# EAGLE library part DF12D-3.0-60 (library gumsense)
60 pin connector PN: DF12D(3.0)-60DP-0.5V Source: con-hirose-df12d(3.0)60dp0.5v80.lbr from Bob Starr <rtzaudio@mindspring.com>
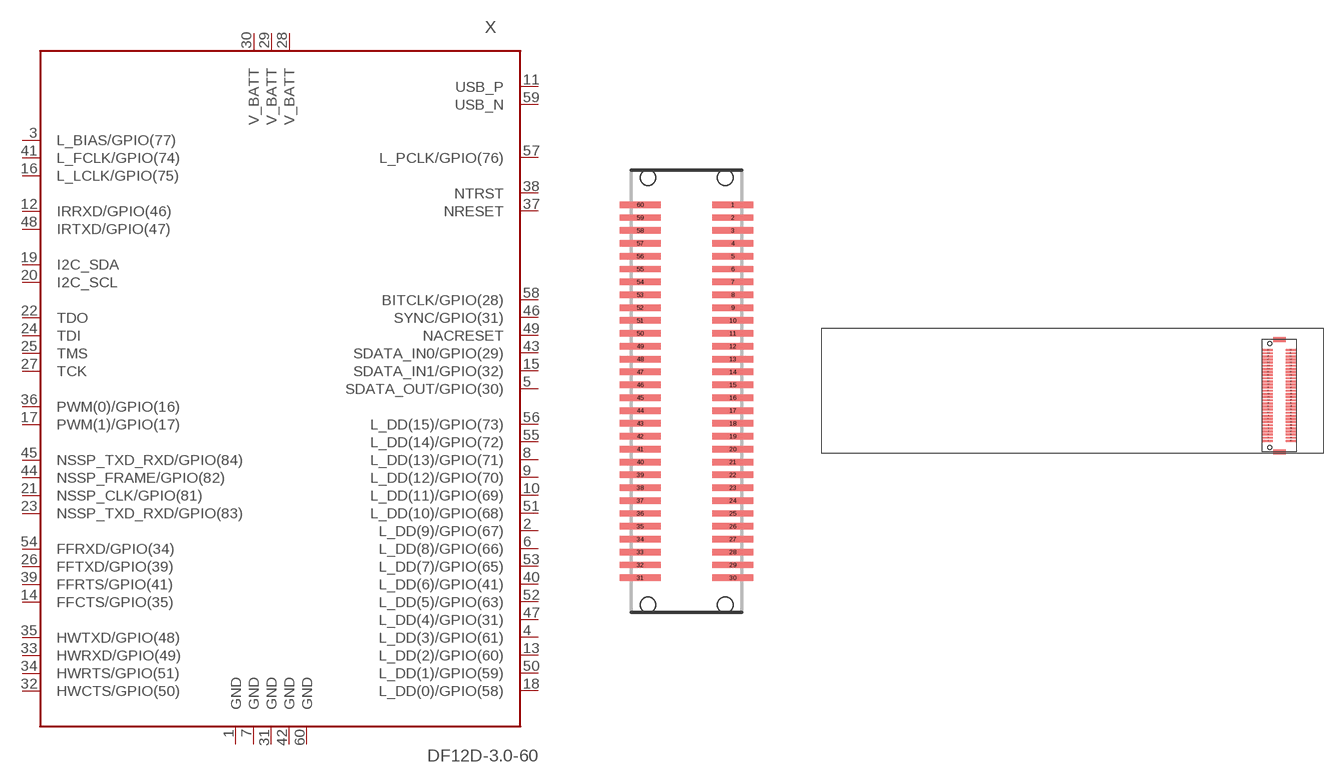
[diagram p1: symbol with the pads of DF12-3.0-60; footprints DF12-3.0-60, GUMDF12]

Designator prefix X

## DF12D-3.0-60  [DF12-3.0-60]
1  GND
2  L_DD(9)/GPIO(67)
3  L_BIAS/GPIO(77)
4  L_DD(3)/GPIO(61)
5  SDATA_OUT/GPIO(30)
6  L_DD(8)/GPIO(66)
7  GND
8  L_DD(13)/GPIO(71)
9  L_DD(12)/GPIO(70)
10  L_DD(11)/GPIO(69)
11  USB_P
12  IRRXD/GPIO(46)
13  L_DD(2)/GPIO(60)
14  FFCTS/GPIO(35)
15  SDATA_IN1/GPIO(32)
16  L_LCLK/GPIO(75)
17  PWM(1)/GPIO(17)
18  L_DD(0)/GPIO(58)
19  I2C_SDA
20  I2C_SCL
21  NSSP_CLK/GPIO(81)
22  TDO
23  NSSP_TXD_RXD/GPIO(83)
24  TDI
25  TMS
26  FFTXD/GPIO(39)
27  TCK
28  V_BATT
29  V_BATT
30  V_BATT
31  GND
32  HWCTS/GPIO(50)
33  HWRXD/GPIO(49)
34  HWRTS/GPIO(51)
35  HWTXD/GPIO(48)
36  PWM(0)/GPIO(16)
37  NRESET
38  NTRST
39  FFRTS/GPIO(41)
40  L_DD(6)/GPIO(41)
41  L_FCLK/GPIO(74)
42  GND
43  SDATA_IN0/GPIO(29)
44  NSSP_FRAME/GPIO(82)
45  NSSP_TXD_RXD/GPIO(84)
46  SYNC/GPIO(31)
47  L_DD(4)/GPIO(31)
48  IRTXD/GPIO(47)
49  NACRESET
50  L_DD(1)/GPIO(59)
51  L_DD(10)/GPIO(68)
52  L_DD(5)/GPIO(63)
53  L_DD(7)/GPIO(65)
54  FFRXD/GPIO(34)
55  L_DD(14)/GPIO(72)
56  L_DD(15)/GPIO(73)
57  L_PCLK/GPIO(76)
58  BITCLK/GPIO(28)
59  USB_N
60  GND

## DF12D-3.0-60GUM  [GUMDF12]
Pads as for DF12-3.0-60

## Footprint DF12-3.0-60 (pad centres in mm)
60 pin connector PN: DF12D(3.0)-60DP-0.5V Hirose Electric Co.
smd 1.6 x 0.25: 1 1.8,7.25; 2 1.8,6.75; 3 1.8,6.25; 4 1.8,5.75; 5 1.8,5.25; 6 1.8,4.75; 7 1.8,4.25; 8 1.8,3.75; 9 1.8,3.25; 10 1.8,2.75; 11 1.8,2.25; 12 1.8,1.75; 13 1.8,1.25; 14 1.8,0.75; 15 1.8,0.25; 16 1.8,-0.25; 17 1.8,-0.75; 18 1.8,-1.25; 19 1.8,-1.75; 20 1.8,-2.25; 21 1.8,-2.75; 22 1.8,-3.25; 23 1.8,-3.75; 24 1.8,-4.25; 25 1.8,-4.75; 26 1.8,-5.25; 27 1.8,-5.75; 28 1.8,-6.25; 29 1.8,-6.75; 30 1.8,-7.25; 31 -1.8,-7.25; 32 -1.8,-6.75; 33 -1.8,-6.25; 34 -1.8,-5.75; 35 -1.8,-5.25; 36 -1.8,-4.75; 37 -1.8,-4.25; 38 -1.8,-3.75; 39 -1.8,-3.25; 40 -1.8,-2.75; 41 -1.8,-2.25; 42 -1.8,-1.75; 43 -1.8,-1.25; 44 -1.8,-0.75; 45 -1.8,-0.25; 46 -1.8,0.25; 47 -1.8,0.75; 48 -1.8,1.25; 49 -1.8,1.75; 50 -1.8,2.25; 51 -1.8,2.75; 52 -1.8,3.25; 53 -1.8,3.75; 54 -1.8,4.25; 55 -1.8,4.75; 56 -1.8,5.25; 57 -1.8,5.75; 58 -1.8,6.25; 59 -1.8,6.75; 60 -1.8,7.25
hole 0.6 at -1.5,8.3
hole 0.6 at 1.5,8.3
hole 0.6 at 1.5,-8.3
hole 0.6 at -1.5,-8.3

## Footprint GUMDF12 (pad centres in mm)
Hirose DF12 60 pin connector plus gumstix board outline and mounting holes The header connector and an outline of the overlying gumstix including the 3 drillholes. Created by gordon@gumstix.com One significant reference used in creating this was the "DF12 Series.pdf" reference material from Hirose, Inc. This material is being made available according to the Creative Commons Attribution-ShareAlike license. THIS INFORMATION IS PROVIDED AS IS AND WITHOUT WARRANTY OF ANY KIND, EXPRESSED OR IMPLIED
smd 1.6 x 0.3: 1 -1.8,-7.25; 2 -1.8,-6.75; 3 -1.8,-6.25; 4 -1.8,-5.75; 5 -1.8,-5.25; 6 -1.8,-4.75; 7 -1.8,-4.25; 8 -1.8,-3.75; 9 -1.8,-3.25; 10 -1.8,-2.75; 11 -1.8,-2.25; 12 -1.8,-1.75; 13 -1.8,-1.25; 14 -1.8,-0.75; 15 -1.8,-0.25; 16 -1.8,0.25; 17 -1.8,0.75; 18 -1.8,1.25; 19 -1.8,1.75; 20 -1.8,2.25; 21 -1.8,2.75; 22 -1.8,3.25; 23 -1.8,3.75; 24 -1.8,4.25; 25 -1.8,4.75; 26 -1.8,5.25; 27 -1.8,5.75; 28 -1.8,6.25; 29 -1.8,6.75; 30 -1.8,7.25; 31 1.8,7.25; 32 1.8,6.75; 33 1.8,6.25; 34 1.8,5.75; 35 1.8,5.25; 36 1.8,4.75; 37 1.8,4.25; 38 1.8,3.75; 39 1.8,3.25; 40 1.8,2.75; 41 1.8,2.25; 42 1.8,1.75; 43 1.8,1.25; 44 1.8,0.75; 45 1.8,0.25; 46 1.8,-0.25; 47 1.8,-0.75; 48 1.8,-1.25; 49 1.8,-1.75; 50 1.8,-2.25; 51 1.8,-2.75; 52 1.8,-3.25; 53 1.8,-3.75; 54 1.8,-4.25; 55 1.8,-4.75; 56 1.8,-5.25; 57 1.8,-5.75; 58 1.8,-6.25; 59 1.8,-6.75; 60 1.8,-7.25
hole 0.6 at -1.5,8.3
hole 0.6 at -1.5,-8.3